# Altium footprint library SM02B-GHS-TBLFSN.PcbLib: 1 footprints
Each footprint in its own frame and in the unit in brackets; x right, y up, seen from the top. Pads: shape width x height; smd on the part's side, far side on the other; paste and mask are expansions set on the pad; w line width, h text height; cw(c..) or ccw(c..) is an arc to the next point about the centre after c.
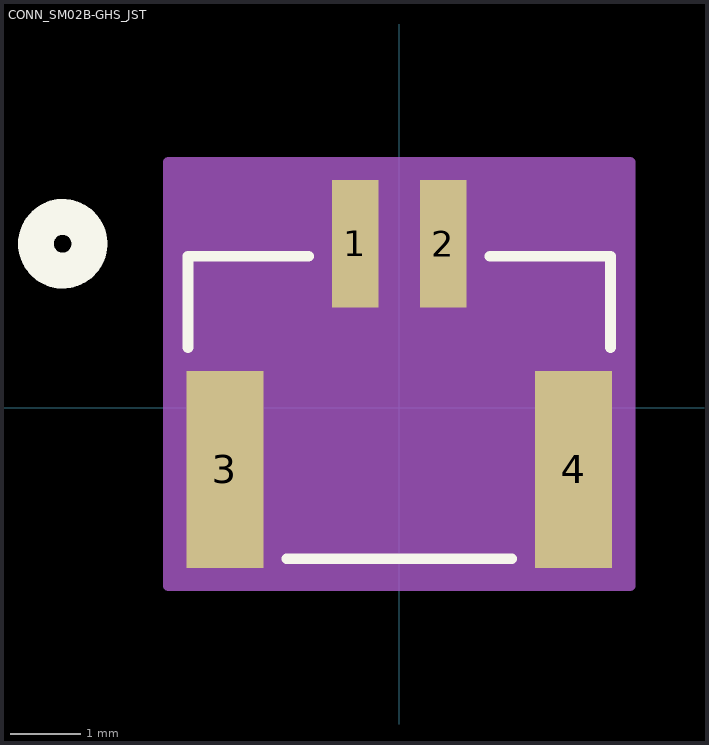
[diagram p0: the footprint, top view; thin cyan lines are the x and y axes]

## CONN_SM02B-GHS_JST [mil]
pads (4):
  rect 26x71 smd paste+0 mask+0: 1(-24.61,91.5) 2(24.61,91.5)
  rect 43x110 smd paste-55 mask-55: 3(-97.44,-34.48) 4(97.44,-34.48)
Top Overlay:
  circle w20: c-188,91.5 r15
  lines w6: -118,33.62 -118,84.5 -50.71,84.5 ; -62.84,-84.5 62.84,-84.5 ; 50.71,84.5 118,84.5 118,33.62
Bottom Overlay:
  circle w20: c-188,91.5 r15
Mechanical 13:
  circle w20: c-24.61,16.5 r15
  lines w1: -113,-79.5 113,-79.5 113,79.5 -113,79.5 -113,-79.5
Mechanical 15:
  region: 128.94,137 -128.94,137 -128.94,-99.48 128.94,-99.48
  lines w6: -128.94,-99.48 -128.94,137 128.94,137 128.94,-99.48 -128.94,-99.48